# Altium footprint library PcbLib.PcbLib: 17 footprints (part 1 of 2)
Each footprint in its own frame and in the unit in brackets; x right, y up, seen from the top. Pads: shape width x height; smd on the part's side, far side on the other; paste and mask are expansions set on the pad; w line width, h text height; cw(c..) or ccw(c..) is an arc to the next point about the centre after c.
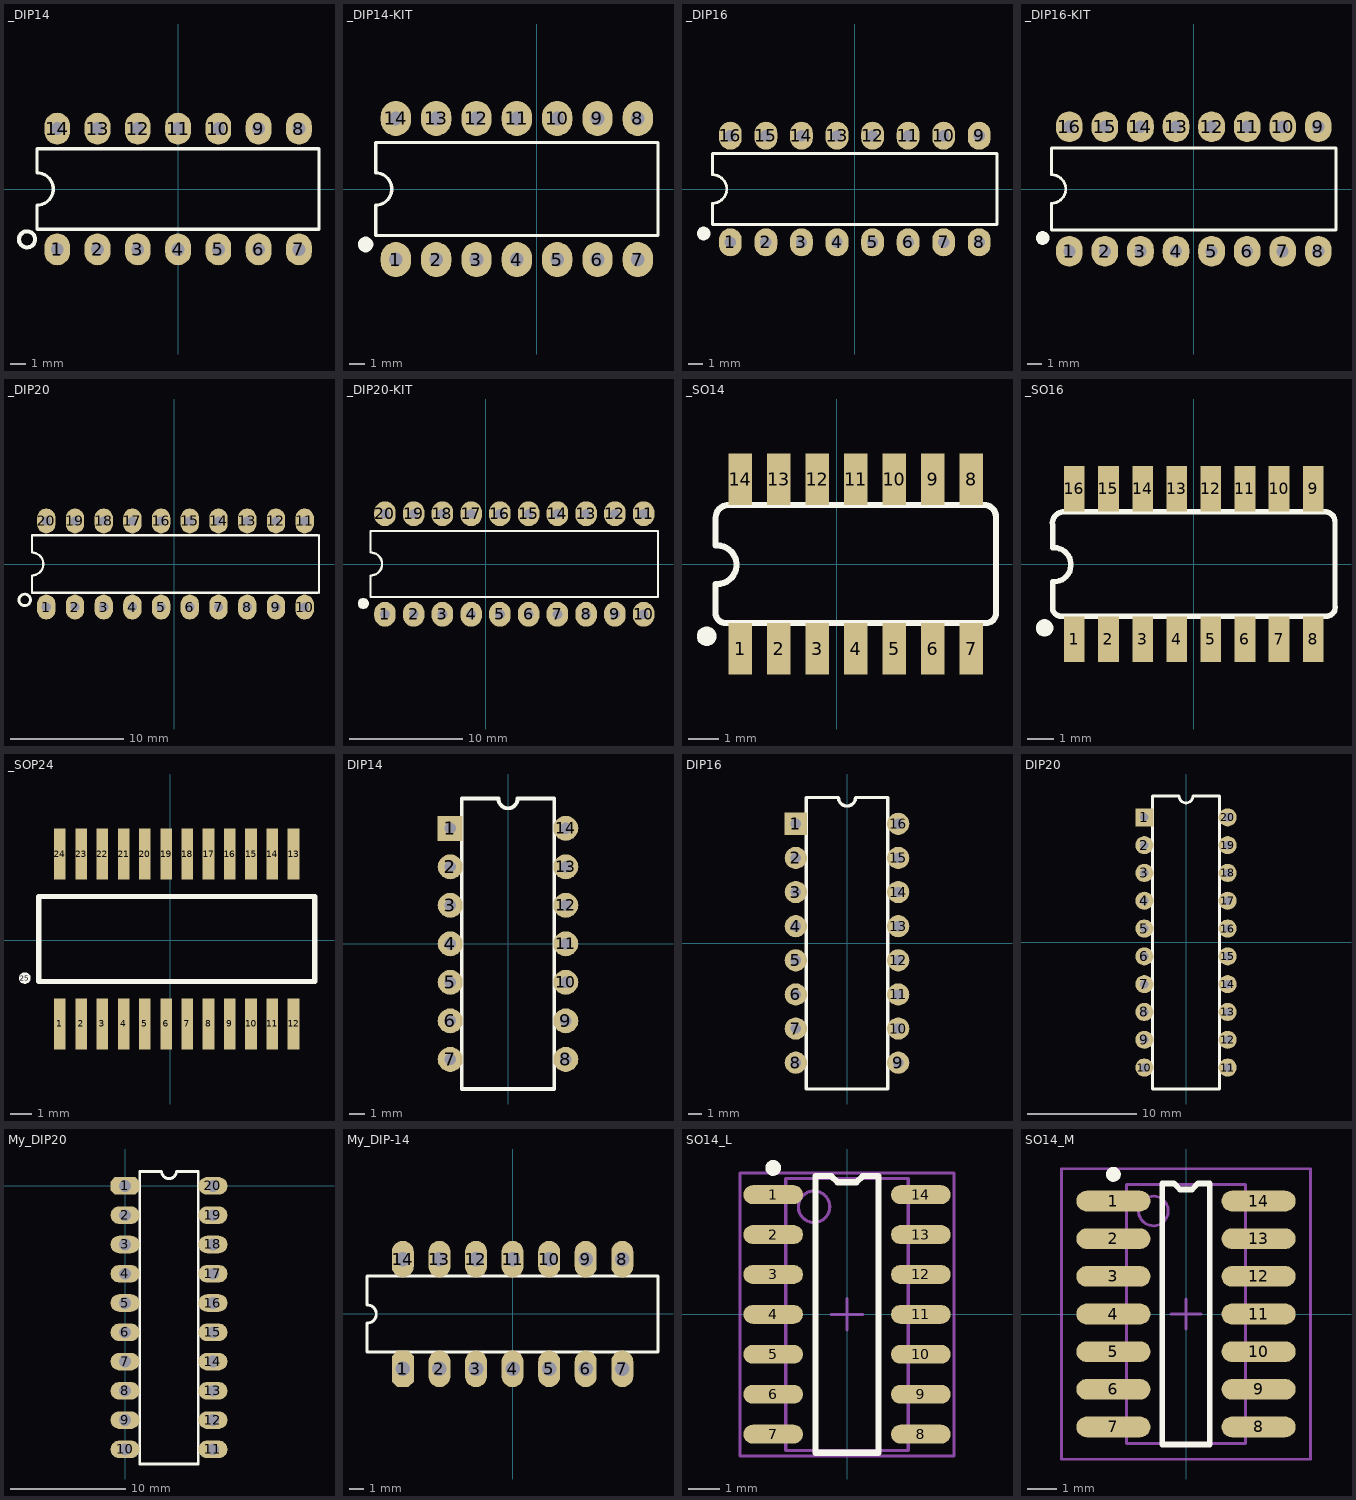
[diagram p0: the footprints below, top view; thin cyan lines are the x and y axes]

## _DIP14 [mil]
pads (14):
  oval 64x78.74 hole 32: 1(-300,-150) 2(-200,-150) 3(-100,-150) 4(0,-150) 5(100,-150) 6(200,-150) 7(300,-150) 8(300,150) 9(200,150) 10(100,150) 11(0,150) 12(-100,150) 13(-200,150) 14(-300,150)
Top Overlay:
  circle w10: c-375,-125 r20
  lines w8: -350,-100 -350,-40 ccw(c-350,0) -350,40 -350,100 350,100 350,-100 -350,-100

## _DIP14-KIT [mil]
pads (14):
  oval 75x86.61 hole 34: 1(-350,-175) 2(-250,-175) 3(-150,-175) 4(-50,-175) 5(50,-175) 6(150,-175) 7(250,-175) 8(250,175) 9(150,175) 10(50,175) 11(-50,175) 12(-150,175) 13(-250,175) 14(-350,175)
Top Overlay:
  region: -443.75,-137.5 -443.75,-133.77 -440.9,-126.88 -435.62,-121.6 -428.73,-118.75 -425,-118.75 -421.27,-118.75 -414.38,-121.6 -409.1,-126.88 -406.25,-133.77 -406.25,-137.5 -406.25,-141.23 -409.1,-148.12 -414.38,-153.4 -421.27,-156.25 -425,-156.25 -428.73,-156.25 -435.62,-153.4 -440.9,-148.12 -443.75,-141.23
  lines w8: -400,-115 300,-115 300,115 -400,115 -400,40 cw(c-400,0) -400,-40 -400,-115
Top Solder:
  circle w0: c250,-175 r17
  circle w0: c250,175 r17
  circle w0: c150,-175 r17
  circle w0: c150,175 r17
  circle w0: c50,-175 r17
  circle w0: c50,175 r17
  circle w0: c-50,-175 r17
  circle w0: c-50,175 r17
  circle w0: c-150,-175 r17
  circle w0: c-150,175 r17
  circle w0: c-250,-175 r17
  circle w0: c-250,175 r17
  circle w0: c-350,-175 r17
  circle w0: c-350,175 r17
Bottom Solder:
  circle w0: c250,-175 r42
  circle w0: c250,175 r42
  circle w0: c150,-175 r42
  circle w0: c150,175 r42
  circle w0: c50,-175 r42
  circle w0: c50,175 r42
  circle w0: c-50,-175 r42
  circle w0: c-50,175 r42
  circle w0: c-150,-175 r42
  circle w0: c-150,175 r42
  circle w0: c-250,-175 r42
  circle w0: c-250,175 r42
  circle w0: c-350,-175 r42
  circle w0: c-350,175 r42

## _DIP16 [mil]
pads (16):
  oval 64x78.74 hole 32: 1(-350,-150) 2(-250,-150) 3(-150,-150) 4(-50,-150) 5(50,-150) 6(150,-150) 7(250,-150) 8(350,-150) 9(350,150) 10(250,150) 11(150,150) 12(50,150) 13(-50,150) 14(-150,150) 15(-250,150) 16(-350,150)
Top Overlay:
  region: -443.75,-125 -443.75,-121.27 -440.9,-114.38 -435.62,-109.1 -428.73,-106.25 -425,-106.25 -421.27,-106.25 -414.38,-109.1 -409.1,-114.38 -406.25,-121.27 -406.25,-125 -406.25,-128.73 -409.1,-135.62 -414.38,-140.9 -421.27,-143.75 -425,-143.75 -428.73,-143.75 -435.62,-140.9 -440.9,-135.62 -443.75,-128.73
  lines w8: -400,-100 -400,-40 ccw(c-400,0) -400,40 -400,100 400,100 400,-100 -400,-100

## _DIP16-KIT [mil]
pads (16):
  oval 75x86.61 hole 34: 1(-350,-175) 2(-250,-175) 3(-150,-175) 4(-50,-175) 5(50,-175) 6(150,-175) 7(250,-175) 8(350,-175) 9(350,175) 10(250,175) 11(150,175) 12(50,175) 13(-50,175) 14(-150,175) 15(-250,175) 16(-350,175)
Top Overlay:
  region: -443.75,-137.5 -443.75,-133.77 -440.9,-126.88 -435.62,-121.6 -428.73,-118.75 -425,-118.75 -421.27,-118.75 -414.38,-121.6 -409.1,-126.88 -406.25,-133.77 -406.25,-137.5 -406.25,-141.23 -409.1,-148.12 -414.38,-153.4 -421.27,-156.25 -425,-156.25 -428.73,-156.25 -435.62,-153.4 -440.9,-148.12 -443.75,-141.23
  lines w8: -400,-115 -400,-40 ccw(c-400,0) -400,40 -400,115 400,115 400,-115 -400,-115
Top Solder:
  circle w0: c-150,175 r17
  circle w0: c-50,175 r17
  circle w0: c50,175 r17
  circle w0: c150,175 r17
  circle w0: c250,175 r17
  circle w0: c350,175 r17
  circle w0: c350,-175 r17
  circle w0: c-250,-175 r17
  circle w0: c-150,-175 r17
  circle w0: c-50,-175 r17
  circle w0: c50,-175 r17
  circle w0: c150,-175 r17
  circle w0: c250,-175 r17
  circle w0: c-350,-175 r17
  circle w0: c-150,175 r17
  circle w0: c-150,175 r17
  circle w0: c-250,175 r17
  circle w0: c-350,175 r17
Bottom Solder:
  circle w0: c-150,175 r42
  circle w0: c-50,175 r42
  circle w0: c50,175 r42
  circle w0: c150,175 r42
  circle w0: c250,175 r42
  circle w0: c350,175 r42
  circle w0: c350,-175 r42
  circle w0: c150,-175 r42
  circle w0: c250,-175 r42
  circle w0: c50,-175 r42
  circle w0: c-50,-175 r42
  circle w0: c-150,-175 r42
  circle w0: c-250,-175 r42
  circle w0: c-350,-175 r42
  circle w0: c-250,175 r42
  circle w0: c-350,175 r42

## _DIP20 [mil]
pads (20):
  oval 64x86.61 hole 32: 1(-445,-150) 2(-345,-150) 3(-245,-150) 4(-145,-150) 5(-45,-150) 6(55,-150) 7(155,-150) 8(255,-150) 9(355,-150) 10(455,-150) 11(455,150) 12(355,150) 13(255,150) 14(155,150) 15(55,150) 16(-45,150) 17(-145,150) 18(-245,150) 19(-345,150) 20(-445,150)
Top Overlay:
  circle w10: c-520,-125 r20
  lines w8: 500,-100 -495,-100 -495,-40 ccw(c-495,0) -495,40 -495,100 500,100 ; 505,-100 505,100

## _DIP20-KIT [mil]
pads (20):
  oval 75x86.61 hole 34: 1(-350,-175) 2(-250,-175) 3(-150,-175) 4(-50,-175) 5(50,-175) 6(150,-175) 7(250,-175) 8(350,-175) 9(450,-175) 10(550,-175) 11(550,175) 12(450,175) 13(350,175) 14(250,175) 15(150,175) 16(50,175) 17(-50,175) 18(-150,175) 19(-250,175) 20(-350,175)
Top Overlay:
  region: -443.75,-137.5 -443.75,-133.77 -440.9,-126.88 -435.62,-121.6 -428.73,-118.75 -425,-118.75 -421.27,-118.75 -414.38,-121.6 -409.1,-126.88 -406.25,-133.77 -406.25,-137.5 -406.25,-141.23 -409.1,-148.12 -414.38,-153.4 -421.27,-156.25 -425,-156.25 -428.73,-156.25 -435.62,-153.4 -440.9,-148.12 -443.75,-141.23
  lines w8: -400,-115 -400,-40 ccw(c-400,0) -400,40 -400,115 600,115 600,-115 -400,-115
Top Solder:
  circle w0: c450,-175 r17
  circle w0: c450,175 r17
  circle w0: c-150,175 r17
  circle w0: c-50,175 r17
  circle w0: c50,175 r17
  circle w0: c150,175 r17
  circle w0: c250,175 r17
  circle w0: c350,175 r17
  circle w0: c350,-175 r17
  circle w0: c-250,-175 r17
  circle w0: c-150,-175 r17
  circle w0: c-50,-175 r17
  circle w0: c50,-175 r17
  circle w0: c150,-175 r17
  circle w0: c250,-175 r17
  circle w0: c-350,-175 r17
  circle w0: c-150,175 r17
  circle w0: c-150,175 r17
  circle w0: c-250,175 r17
  circle w0: c-350,175 r17
  circle w0: c550,175 r17
  circle w0: c550,-175 r17
Bottom Solder:
  circle w0: c450,-175 r42
  circle w0: c450,175 r42
  circle w0: c-150,175 r42
  circle w0: c-50,175 r42
  circle w0: c50,175 r42
  circle w0: c150,175 r42
  circle w0: c250,175 r42
  circle w0: c350,175 r42
  circle w0: c350,-175 r42
  circle w0: c150,-175 r42
  circle w0: c250,-175 r42
  circle w0: c50,-175 r42
  circle w0: c-50,-175 r42
  circle w0: c-150,-175 r42
  circle w0: c-250,-175 r42
  circle w0: c-350,-175 r42
  circle w0: c-250,175 r42
  circle w0: c-350,175 r42
  circle w0: c550,175 r42
  circle w0: c550,-175 r42

## _SO14 [mm]
pads (14):
  rect 0.77x1.7 smd: 1(-3.175,-2.8) 2(-1.905,-2.8) 3(-0.635,-2.8) 4(0.635,-2.8) 5(1.905,-2.8) 6(3.175,-2.8) 7(4.445,-2.8) 8(4.445,2.8) 9(3.175,2.8) 10(1.905,2.8) 11(0.635,2.8) 12(-0.635,2.8) 13(-1.905,2.8) 14(-3.175,2.8)
Top Overlay:
  region: -3.969,-2.381 -3.969,-2.318 -4.017,-2.201 -4.106,-2.112 -4.223,-2.064 -4.286,-2.064 -4.349,-2.064 -4.466,-2.112 -4.555,-2.201 -4.604,-2.318 -4.604,-2.381 -4.604,-2.444 -4.555,-2.561 -4.466,-2.65 -4.349,-2.699 -4.286,-2.699 -4.223,-2.699 -4.106,-2.65 -4.017,-2.561 -3.969,-2.444
  lines w0.203: -3.988,-0.66 -3.988,-1.665 ccw(c-3.657,-1.616) -3.607,-1.946 4.977,-1.946 ccw(c4.927,-1.615) 5.258,-1.565 5.258,1.565 ccw(c4.877,1.566) 4.877,1.946 -3.607,1.946 ccw(c-3.557,1.515) -3.988,1.465 ; -3.988,0.61 -3.988,1.453 ; -3.937,-0.66 ccw(c-3.937,-0.025) -3.937,0.61

## _SO16 [mm]
pads (16):
  rect 0.77x1.7 smd: 1(-4.445,-2.8) 2(-3.175,-2.8) 3(-1.905,-2.8) 4(-0.635,-2.8) 5(0.635,-2.8) 6(1.905,-2.8) 7(3.175,-2.8) 8(4.445,-2.8) 9(4.445,2.8) 10(3.175,2.8) 11(1.905,2.8) 12(0.635,2.8) 13(-0.635,2.8) 14(-1.905,2.8) 15(-3.175,2.8) 16(-4.445,2.8)
Top Overlay:
  region: -5.239,-2.381 -5.239,-2.318 -5.287,-2.201 -5.376,-2.112 -5.493,-2.064 -5.556,-2.064 -5.619,-2.064 -5.736,-2.112 -5.825,-2.201 -5.874,-2.318 -5.874,-2.381 -5.874,-2.444 -5.825,-2.561 -5.736,-2.65 -5.619,-2.699 -5.556,-2.699 -5.493,-2.699 -5.376,-2.65 -5.287,-2.561 -5.239,-2.444
  lines w0.203: -5.258,-0.66 -5.258,-1.665 ccw(c-4.927,-1.616) -4.877,-1.946 4.977,-1.946 ccw(c4.927,-1.615) 5.258,-1.565 5.258,1.565 ccw(c4.877,1.566) 4.877,1.946 -4.877,1.946 ccw(c-4.827,1.515) -5.258,1.465 ; -5.258,0.61 -5.258,1.453 ; -5.207,-0.66 ccw(c-5.207,-0.025) -5.207,0.61

## _SOP24 [mm]
pads (25):
  rect 0.55x2.4 smd: 1(-5.207,-3.937) 2(-4.207,-3.937) 3(-3.207,-3.937) 4(-2.207,-3.937) 5(-1.207,-3.937) 6(-0.207,-3.937) 7(0.793,-3.937) 8(1.793,-3.937) 9(2.793,-3.937) 10(3.793,-3.937) 11(4.793,-3.937) 12(5.793,-3.937) 13(5.793,4.063) 14(4.793,4.063) 15(3.793,4.063) 16(2.793,4.063) 17(1.793,4.063) 18(0.793,4.063) 19(-0.207,4.063) 20(-1.207,4.063) 21(-2.207,4.063) 22(-3.207,4.063) 23(-4.207,4.063) 24(-5.207,4.063)
  round 0.55 on Top Overlay: 25(-6.858,-1.778)
Top Overlay:
  lines w0.25: -6.207,-1.937 -6.207,2.063 6.793,2.063 6.793,-1.937 -6.207,-1.937

## DIP14 [mil]
pads (14):
  rect 65x65 hole 30: 1(-150,300)
  round 65 hole 30: 2(-150,200) 3(-150,100) 4(-150,0) 5(-150,-100) 6(-150,-200) 7(-150,-300) 8(150,-300) 9(150,-200) 10(150,-100) 11(150,0) 12(150,100) 13(150,200) 14(150,300)
Top Overlay:
  lines w10: -120,-377 120,-377 120,377 25,377 cw(c0,377) -25,377 -120,377 -120,-377
3D body "SW3dPS-DIP14-300.step": height 200, standoff -98.03, extent -154.92,-383.86 154.92,383.86

## DIP16 [mil]
pads (16):
  rect 65x65 hole 30: 1(-150,350)
  round 65 hole 30: 2(-150,250) 3(-150,150) 4(-150,50) 5(-150,-50) 6(-150,-150) 7(-150,-250) 8(-150,-350) 9(150,-350) 10(150,-250) 11(150,-150) 12(150,-50) 13(150,50) 14(150,150) 15(150,250) 16(150,350)
Top Overlay:
  lines w10: -120,-427 -120,427 -25,427 ccw(c0,427) 25,427 120,427 120,-427 -120,-427
3D body "SW3dPS-DIP16-300.step": height 200, standoff -98.03, extent -154.92,-393.7 154.92,393.7

## DIP20 [mil]
pads (20):
  rect 65x65 hole 30: 1(-150,450)
  round 65 hole 30: 2(-150,350) 3(-150,250) 4(-150,150) 5(-150,50) 6(-150,-50) 7(-150,-150) 8(-150,-250) 9(-150,-350) 10(-150,-450) 11(150,-450) 12(150,-350) 13(150,-250) 14(150,-150) 15(150,-50) 16(150,50) 17(150,150) 18(150,250) 19(150,350) 20(150,450)
Top Overlay:
  lines w10: -120,-527 120,-527 120,527 25,527 cw(c0,527) -25,527 -120,527 -120,-527
Mechanical 1:
  drawing of 264 lines, arcs and shapes, not listed
3D body: height 101, standoff 100, extent -25.5,501.6 25.5,532.1
3D body: height 35, standoff -75, extent -155,441 -145,459
3D body: height 75, standoff 35, extent -155,425 -145,475
3D body: height 75, standoff 65, extent -145,425 -125,475
3D body: height 100, standoff 30, extent -125,-527 125,532
3D body: height 115, standoff 100, extent -125,-527 125,532
3D body: height 75, standoff 65, extent -145,325 -125,375
3D body: height 75, standoff 35, extent -155,325 -145,375
3D body: height 35, standoff -75, extent -155,341 -145,359
3D body: height 75, standoff 65, extent -145,225 -125,275
3D body: height 75, standoff 35, extent -155,225 -145,275
3D body: height 35, standoff -75, extent -155,241 -145,259
3D body: height 75, standoff 65, extent -145,125 -125,175
3D body: height 75, standoff 35, extent -155,125 -145,175
3D body: height 35, standoff -75, extent -155,141 -145,159
3D body: height 75, standoff 65, extent -145,25 -125,75
3D body: height 75, standoff 35, extent -155,25 -145,75
3D body: height 35, standoff -75, extent -155,41 -145,59
3D body: height 75, standoff 65, extent -145,-75 -125,-25
3D body: height 75, standoff 35, extent -155,-75 -145,-25
3D body: height 35, standoff -75, extent -155,-59 -145,-41
3D body: height 75, standoff 65, extent -145,-175 -125,-125
3D body: height 75, standoff 35, extent -155,-175 -145,-125
3D body: height 35, standoff -75, extent -155,-159 -145,-141
3D body: height 75, standoff 65, extent 125,-175 145,-125
3D body: height 75, standoff 35, extent 145,-175 155,-125
3D body: height 35, standoff -75, extent 145,-159 155,-141
3D body: height 75, standoff 65, extent 125,-75 145,-25
3D body: height 75, standoff 35, extent 145,-75 155,-25
3D body: height 35, standoff -75, extent 145,-59 155,-41
3D body: height 75, standoff 65, extent 125,25 145,75
3D body: height 75, standoff 35, extent 145,25 155,75
3D body: height 35, standoff -75, extent 145,41 155,59
3D body: height 75, standoff 65, extent 125,125 145,175
3D body: height 75, standoff 35, extent 145,125 155,175
3D body: height 35, standoff -75, extent 145,141 155,159
3D body: height 75, standoff 65, extent 125,225 145,275
3D body: height 75, standoff 35, extent 145,225 155,275
3D body: height 35, standoff -75, extent 145,241 155,259
3D body: height 75, standoff 65, extent 125,325 145,375
3D body: height 75, standoff 35, extent 145,325 155,375
3D body: height 35, standoff -75, extent 145,341 155,359
3D body: height 75, standoff 65, extent 125,425 145,475
3D body: height 75, standoff 35, extent 145,425 155,475
3D body: height 35, standoff -75, extent 145,441 155,459
3D body: height 35, standoff -75, extent -155,-259 -145,-241
3D body: height 75, standoff 35, extent -155,-275 -145,-225
3D body: height 75, standoff 65, extent -145,-275 -125,-225
3D body: height 35, standoff -75, extent 144,-259 154,-241
3D body: height 75, standoff 35, extent 144,-275 154,-225
3D body: height 75, standoff 65, extent 124,-275 144,-225
3D body: height 75, standoff 65, extent -145,-375 -125,-325
3D body: height 75, standoff 35, extent -155,-375 -145,-325
3D body: height 35, standoff -75, extent -155,-359 -145,-341
3D body: height 75, standoff 65, extent -145,-475 -125,-425
3D body: height 75, standoff 35, extent -155,-475 -145,-425
3D body: height 35, standoff -75, extent -155,-459 -145,-441
3D body: height 75, standoff 65, extent 125,-475 145,-425
3D body: height 75, standoff 35, extent 145,-475 155,-425
3D body: height 35, standoff -75, extent 145,-459 155,-441
3D body: height 75, standoff 65, extent 125,-375 145,-325
3D body: height 75, standoff 35, extent 145,-375 155,-325
3D body: height 35, standoff -75, extent 145,-359 155,-341

## My_DIP20 [mil]
pads (20):
  oct 100x60 hole 40: 1(-0.5,-0.5)
  oval 100x60 hole 40: 2(-0.5,-100.5) 3(-0.5,-200.5) 4(-0.5,-300.5) 5(-0.5,-400.5) 6(-0.5,-500.5) 7(-0.5,-600.5) 8(-0.5,-700.5) 9(-0.5,-800.5) 10(-0.5,-900.5) 11(299.5,-900.5) 12(299.5,-800.5) 13(299.5,-700.5) 14(299.5,-600.5) 15(299.5,-500.5) 16(299.5,-400.5) 17(299.5,-300.5) 18(299.5,-200.5) 19(299.5,-100.5) 20(299.5,-0.5)
Top Overlay:
  lines w10: 49.5,-950.5 249.5,-950.5 249.5,49.5 174.5,49.5 cw(c149.5,49.5) 124.5,49.5 49.5,49.5 49.5,-950.5

## My_DIP-14 [mil]
pads (14):
  oct 60x100 hole 40: 1(-300.5,-150.5)
  oval 60x100 hole 40: 2(-200.5,-150.5) 3(-100.5,-150.5) 4(-0.5,-150.5) 5(99.5,-150.5) 6(199.5,-150.5) 7(299.5,-150.5) 8(299.5,149.5) 9(199.5,149.5) 10(99.5,149.5) 11(-0.5,149.5) 12(-100.5,149.5) 13(-200.5,149.5) 14(-300.5,149.5)
Top Overlay:
  lines w7.87: -398.14,-104.83 397.14,-104.83 397.14,103.83 -398.14,103.83 -398.14,24.5 cw(c-398.14,-0.5) -398.14,-25.5 -398.14,-104.83

## SO14_L [mm] "14-Pin Small Outline Integrated Circuit 1.27 mm Pitch, IPC High Density - Designer Abbas Basereh"
height 1.75
pads (14):
  oval 1.9x0.6 smd: 1(-2.35,3.81) 2(-2.35,2.54) 3(-2.35,1.27) 4(-2.35,0) 5(-2.35,-1.27) 6(-2.35,-2.54) 7(-2.35,-3.81) 8(2.35,-3.81) 9(2.35,-2.54) 10(2.35,-1.27) 11(2.35,0) 12(2.35,1.27) 13(2.35,2.54) 14(2.35,3.81)
Top Overlay:
  circle w0.25: c-2.35,4.66 r0.125
  lines w0.2: -1,-4.4 -1,4.4 -0.5,4.4 -0.3,4.2 0.3,4.2 0.5,4.4 1,4.4 1,-4.4 -1,-4.4
Mechanical 13:
  circle w0.1: c-1.05,3.425 r0.5
  lines w0.1: -1.95,-4.325 -1.95,4.325 1.95,4.325 1.95,-4.325 -1.95,-4.325
Mechanical 15:
  lines w0.1: -0.5,0 0.5,0 ; 0,-0.5 0,0.5 ; -3.4,-4.5 -3.4,4.5 3.4,4.5 3.4,-4.5 -3.4,-4.5
3D body "User Library-SO-14N.STEP": height 1.62, standoff 0, extent -3,-4.34 3,4.34

## SO14_M [mm] "14-Pin Small Outline Integrated Circuit 1.27 mm Pitch, IPC Low Density - Designer Abbas Basereh"
height 1.75
pads (14):
  oval 2.5x0.7 smd: 1(-2.45,3.81) 2(-2.45,2.54) 3(-2.45,1.27) 4(-2.45,0) 5(-2.45,-1.27) 6(-2.45,-2.54) 7(-2.45,-3.81) 8(2.45,-3.81) 9(2.45,-2.54) 10(2.45,-1.27) 11(2.45,0) 12(2.45,1.27) 13(2.45,2.54) 14(2.45,3.81)
Top Overlay:
  circle w0.25: c-2.45,4.71 r0.125
  lines w0.2: -0.8,-4.4 -0.8,4.4 -0.4,4.4 -0.2,4.2 0.2,4.2 0.4,4.4 0.8,4.4 0.8,-4.4 -0.8,-4.4
Mechanical 13:
  circle w0.1: c-1.1,3.475 r0.5
  lines w0.1: -2,-4.375 -2,4.375 2,4.375 2,-4.375 -2,-4.375
Mechanical 15:
  lines w0.1: -0.5,0 0.5,0 ; 0,-0.5 0,0.5 ; -4.2,-4.9 -4.2,4.9 4.2,4.9 4.2,-4.9 -4.2,-4.9
3D body "User Library-SO-14N.STEP": height 1.62, standoff 0, extent -3,-4.34 3,4.34